# Altium footprint library INDM3225X240N.PcbLib: 1 footprints
Each footprint in its own frame and in the unit in brackets; x right, y up, seen from the top. Pads: shape width x height; smd on the part's side, far side on the other; paste and mask are expansions set on the pad; w line width, h text height; cw(c..) or ccw(c..) is an arc to the next point about the centre after c.
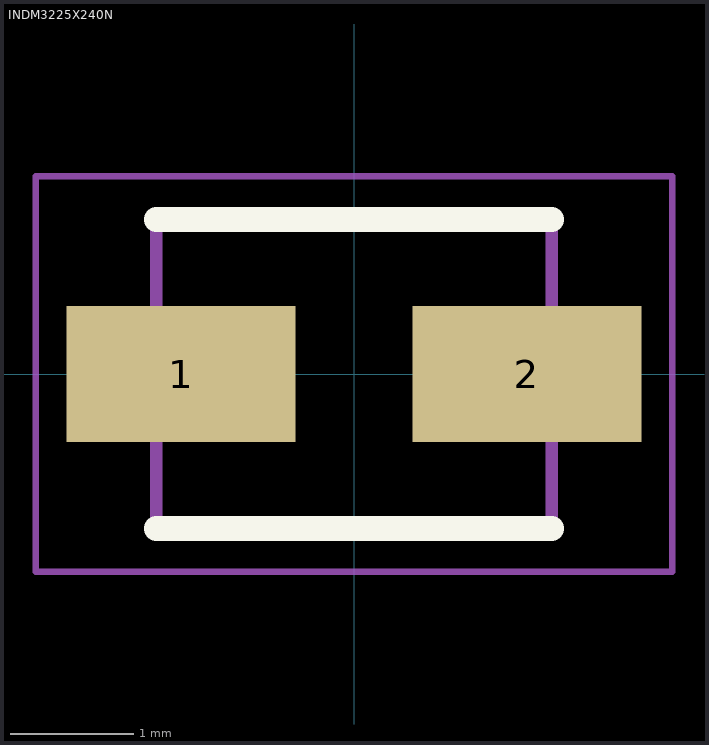
[diagram p0: the footprint, top view; thin cyan lines are the x and y axes]

## INDM3225X240N [mm]
pads (2):
  rect 1.85x1.1 smd: 1(-1.4,0) 2(1.4,0)
Top Overlay:
  lines w0.2: -1.6,-1.25 1.6,-1.25 ; -1.6,1.25 1.6,1.25
Mechanical 15:
  lines w0.1: -1.6,-1.25 1.6,-1.25 1.6,1.25 -1.6,1.25 -1.6,-1.25
Mechanical 20:
  lines w0.05: -2.575,-1.6 2.575,-1.6 2.575,1.6 -2.575,1.6 -2.575,-1.6